# Altium schematic symbol library MKE18F512 VLH16 MCU.SchLib: 1 symbol
Pins are listed as number, name and electrical type; pins without a type are passive.

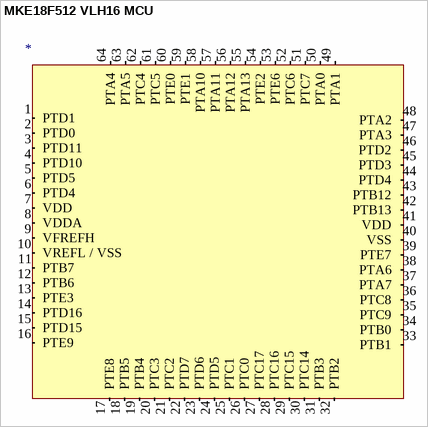
[diagram p0: symbol MKE18F512 VLH16 MCU]

## MKE18F512 VLH16 MCU
designator *
KInetis KE1xF ARM Cortex M4 Based Microcontroller
pins: 1 PTD1 (in), 2 PTD0 (in), 3 PTD11 (in), 4 PTD10 (in), 5 PTD5 (in), 6 PTD4 (in), 7 VDD (in), 8 VDDA (in), 9 VFREFH (in), 10 VREFL / VSS (in), 11 PTB7 (in), 12 PTB6 (in), 13 PTE3 (in), 14 PTD16 (in), 15 PTD15 (in), 16 PTE9 (in), 17 PTE8 (in), 18 PTB5 (in), 19 PTB4 (in), 20 PTC3 (in), 21 PTC2 (in), 22 PTD7 (in), 23 PTD6 (in), 24 PTD5 (in), 25 PTC1 (in), 26 PTC0 (in), 27 PTC17 (in), 28 PTC16 (in), 29 PTC15 (in), 30 PTC14 (in), 31 PTB3 (in), 32 PTB2 (in), 33 PTB1 (in), 34 PTB0 (in), 35 PTC9 (in), 36 PTC8 (in), 37 PTA7 (in), 38 PTA6 (in), 39 PTE7 (in), 40 VSS (in), 41 VDD (in), 42 PTB13 (in), 43 PTB12 (in), 44 PTD4 (in), 45 PTD3 (in), 46 PTD2 (in), 47 PTA3 (in), 48 PTA2 (in), 49 PTA1 (in), 50 PTA0 (in), 51 PTC7 (in), 52 PTC6 (in), 53 PTE6 (in), 54 PTE2 (in), 55 PTA13 (in), 56 PTA12 (in), 57 PTA11 (in), 58 PTA10 (in), 59 PTE1 (in), 60 PTE0 (in), 61 PTC5 (in), 62 PTC4 (in), 63 PTA5 (in), 64 PTA4 (in)